# EAGLE library part 693071030811 (library USB_c_conn)
WR-CRD Micro SD Card Connector Push & Push 8 pins KIND PROPERTIES Quality Class 10 000 Mating cycles Gender Socket Type Push & Push MATERIAL PROPERTIES Insulator Material LCP Insulator Flammability Rating UL94 V-0 Insulator Color Black Color Black Cover Material Stainless Steel Contact Material Copper Alloy Contact Plating Selective Gold;​ 1 u' on contact area Contact Type Stamped GENERAL INFORMATION Operating Temperature -25 up to +85 °C;​ -40 up to +85 °C Compliance RoHS ELECTRICAL PROPERTIES Working Voltage 100 V (AC);​ 30 V (AC) Withstanding Voltage 500 V (AC) Contact Resistance 100 mΩ Contact Resistance 500 mΩ Details see: https://katalog.we-online.com/en/em/CRD_SD_MICRO_PUSH_AND_PULL_8_PINS Created by Ella Wu 2019-11-05 2019(C) Wurth Elektronik
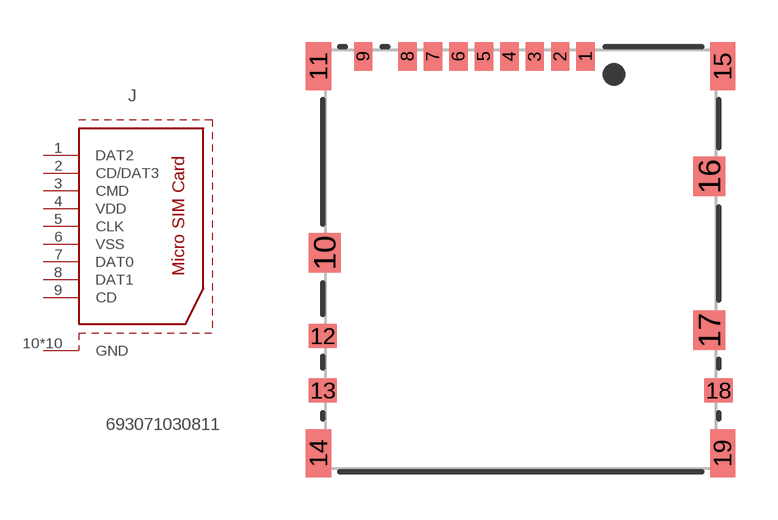
[diagram p195: symbol with the pads of 693071030811; footprint 693071030811]

Designator prefix J

## 693071030811  [693071030811]
1  DAT2
2  CD/DAT3
3  CMD
4  VDD
5  CLK
6  VSS
7  DAT0
8  DAT1
9  CD
10  GND
11  GND
12  GND
13  GND
14  GND
15  GND
16  GND
17  GND
18  GND
19  GND

## Footprint 693071030811 (pad centres in mm)
smd 0.65 x 1: 1 2.3,11.83; 2 1.4,11.83; 3 0.5,11.83; 4 -0.4,11.83; 5 -1.3,11.83; 6 -2.2,11.83; 7 -3.1,11.83; 8 -4,11.83; 9 -5.57,11.83
smd 1.13 x 1.4: 10 -6.935,4.88; 16 6.68,7.58; 17 6.68,2.13
smd 0.9 x 1.7: 11 -7.15,11.48; 14 -7.15,-2.22; 15 7.15,11.48; 19 7.15,-2.22
smd 1 x 0.85: 12 -7,1.93; 13 -7,0; 18 7,0